# Altium schematic symbol library SchlibUGO.SchLib: 15 symbols
Pins are listed as number, name and electrical type; pins without a type are passive.

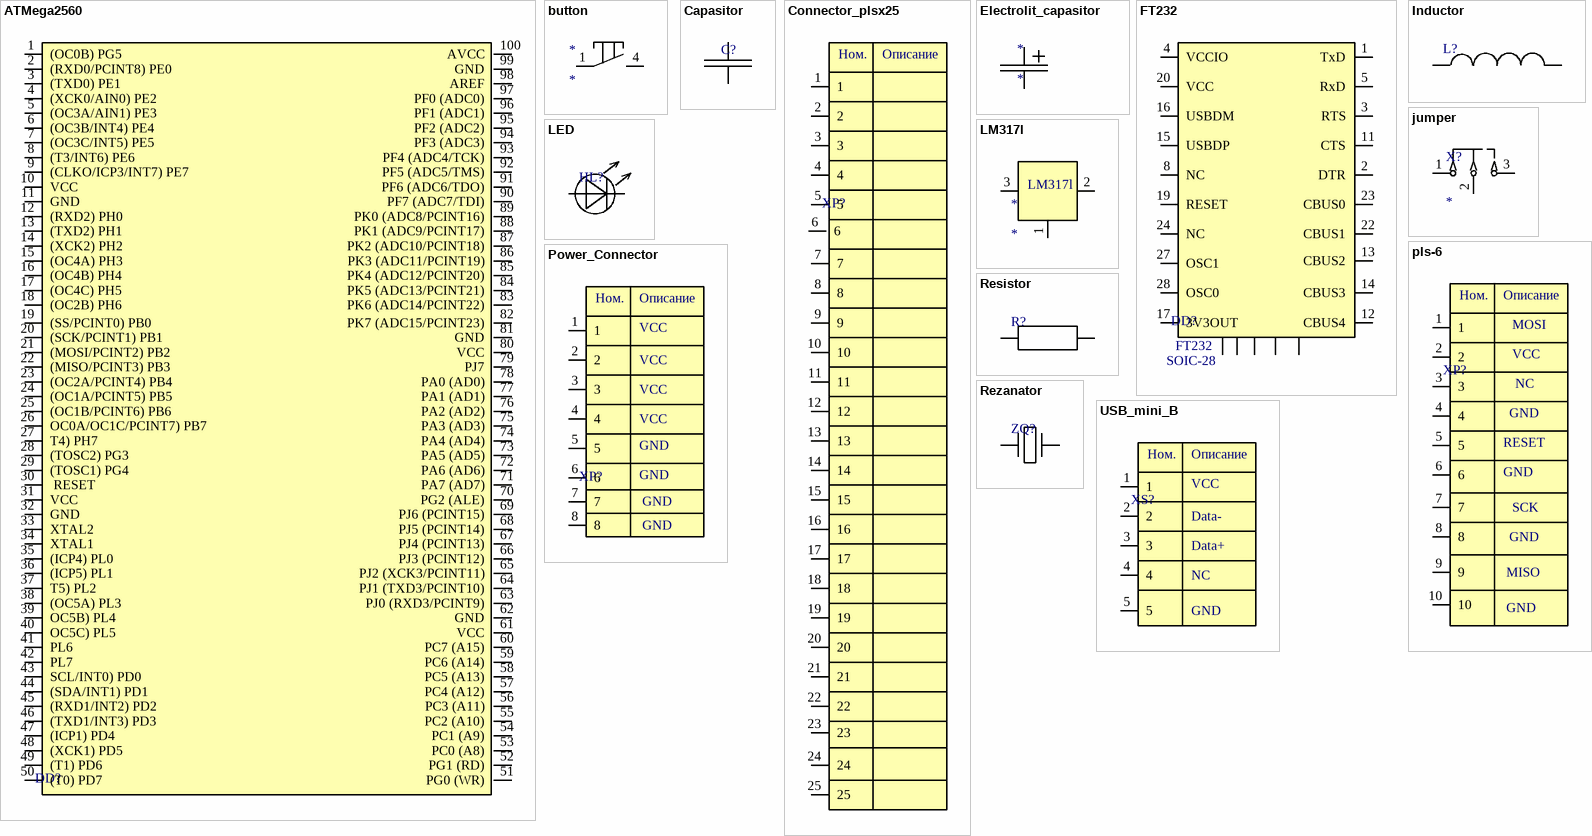
[diagram p0: symbols ATMega2560 to USB_mini_B]

## ATMega2560
designator DD?  (value not drawn)
Марка: *; Производитель: *; Корпус: *
footprint TSQFP50P1600X1600X120-100N (TSQFP, 100-Leads, Body 14,00x14,00mm, Pitch 0,50mm, IPC Medium Density)
pins: 1 (OC0B) PG5, 2 (RXD0/PCINT8) PE0, 3 (TXD0) PE1, 4 (XCK0/AIN0) PE2, 5 (OC3A/AIN1) PE3, 6 (OC3B/INT4) PE4, 7 (OC3C/INT5) PE5, 8 (T3/INT6) PE6, 9 (CLKO/ICP3/INT7) PE7, 10 VCC, 11 GND, 12 (RXD2) PH0, 13 (TXD2) PH1, 14 (XCK2) PH2, 15 (OC4A) PH3, 16 (OC4B) PH4, 17 (OC4C) PH5, 18 (OC2B) PH6, 19 (SS/PCINT0) PB0, 20 (SCK/PCINT1) PB1, 21 (MOSI/PCINT2) PB2, 22 (MISO/PCINT3) PB3, 23 (OC2A/PCINT4) PB4, 24 (OC1A/PCINT5) PB5, 25 (OC1B/PCINT6) PB6, 26 OC0A/OC1C/PCINT7) PB7, 27 T4) PH7, 28 (TOSC2) PG3, 29 (TOSC1) PG4, 30  RESET, 31 VCC, 32 GND, 33 XTAL2, 34 XTAL1, 35 (ICP4) PL0, 36 (ICP5) PL1, 37 T5) PL2, 38 (OC5A) PL3, 39 OC5B) PL4, 40 OC5C) PL5, 41 PL6, 42 PL7, 43 SCL/INT0) PD0, 44 (SDA/INT1) PD1, 45 (RXD1/INT2) PD2, 46 (TXD1/INT3) PD3, 47 (ICP1) PD4, 48 (XCK1) PD5, 49 (T1) PD6, 50 (T0) PD7, 51 PG0 (WR), 52 PG1 (RD), 53 PC0 (A8), 54 PC1 (A9), 55 PC2 (A10), 56 PC3 (A11), 57 PC4 (A12), 58 PC5 (A13), 59 PC6 (A14), 60 PC7 (A15), 61 VCC, 62 GND, 63 PJ0 (RXD3/PCINT9), 64 PJ1 (TXD3/PCINT10), 65 PJ2 (XCK3/PCINT11), 66 PJ3 (PCINT12), 67 PJ4 (PCINT13), 68 PJ5 (PCINT14), 69 PJ6 (PCINT15), 70 PG2 (ALE), 71 PA7 (AD7), 72 PA6 (AD6), 73 PA5 (AD5), 74 PA4 (AD4), 75 PA3 (AD3), 76 PA2 (AD2), 77 PA1 (AD1), 78 PA0 (AD0), 79 PJ7, 80 VCC, 81 GND, 82 PK7 (ADC15/PCINT23), 83 PK6 (ADC14/PCINT22), 84 PK5 (ADC13/PCINT21), 85 PK4 (ADC12/PCINT20), 86 PK3 (ADC11/PCINT19), 87 PK2 (ADC10/PCINT18), 88 PK1 (ADC9/PCINT17), 89 PK0 (ADC8/PCINT16), 90 PF7 (ADC7/TDI), 91 PF6 (ADC6/TDO), 92 PF5 (ADC5/TMS), 93 PF4 (ADC4/TCK), 94 PF3 (ADC3), 95 PF2 (ADC2), 96 PF1 (ADC1), 97 PF0 (ADC0), 98 AREF, 99 GND, 100 AVCC

## button
designator *
footprint KLS2
pins: 1, 4

## Capasitor
designator C?  (value not drawn)
Марка: *; Производитель: *; Номинал: *; Напряжение: *
footprint CAPC2012L (Chip Capacitor, Body 2.0x1.3mm, IPC High Density)
pins: 1, 2

## Connector_plsx25
designator XP?  (value not drawn)
footprint PLSx25_XP
pins: 1, 2, 3, 4, 5, 6, 7, 8, 9, 10, 11, 12, 13, 14, 15, 16, 17, 18, 19, 20, 21, 22, 23, 24, 25
text: Ном.; Описание

## Electrolit_capasitor
designator *
Производитель: *; Напряжение: *; Номинал: *
footprint K50-Elect
pins: 1, 2

## FT232
designator DD?  марка: FT232  Корпус: SOIC-28  (hidden comment: *)
Производитель: Texas Instruments
footprint SSOP-28
pins: 1 TxD, 2 DTR, 3 RTS, 4 VCCIO, 5 RxD, 7, 8 NC, 11 CTS, 12 CBUS4, 13 CBUS2, 14 CBUS3, 15 USBDP, 16 USBDM, 17 3V3OUT, 18, 19 RESET, 20 VCC, 21, 22 CBUS1, 23 CBUS0, 24 NC, 25, 26, 27 OSC1, 28 OSC0

## Inductor
designator L?  (value not drawn)
footprint Drossel
pins: 1, 2

## jumper
designator X?
Производитель: *; марка: *
footprint PLSx3_XP
pins: 1, 2, 3

## LED
designator HL?  (value not drawn)
Марка: *; Производитель: *; Цвет: *
footprint LED
pins: 1, 2

## LM317l
designator *
Корпус: TO-263; Марка: *; Производитель: *
footprint TO-263-3
pins: 1, 2, 3

## pls-6
designator XP?  (value not drawn)
Марка: *; Производитель: *
footprint PLS6-2
pins: 1, 2, 3, 4, 5, 6, 7, 8, 9, 10
text: Ном.; Описание; MOSI; VCC; NC; GND; RESET; SCK; MISO

## Power_Connector
designator XP?  (value not drawn)
Марка: *; производитель: *
footprint PLS-8-2
pins: 1, 2, 3, 4, 5, 6, 7, 8
text: Ном.; Описание; VCC; GND

## Resistor
designator R?  (value not drawn)
Марка: *; Производитель: *; Номинал: *; Мощность: *
footprint RESC2012L (Chip Resistor, Body 2.0x1.3mm, IPC High Density)
pins: 1, 2

## Rezanator
designator ZQ?  (value not drawn)
footprint STS
pins: 1, 2

## USB_mini_B
designator XS?  (value not drawn)
Марка: *; производитель: *
footprint KLS1-229-5FE
pins: 1, 2, 3, 4, 5
text: Ном.; Описание; VCC; Data-; Data+; NC; GND